# EAGLE library part JEELABS_MCP3424 (library PaxInstrument-T400)
18-Bit, 4-Channel Sampling ANALOG-TO-DIGITAL CONVERTER with I2C? Interface Source: www.ti.com .. ADS7828.pdf
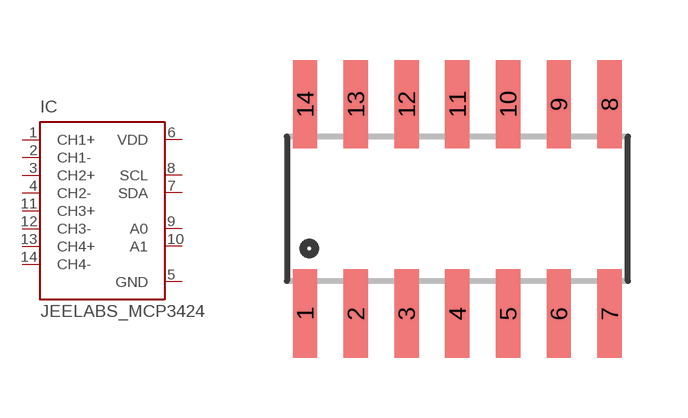
[diagram p0: symbol with the pads of JEELABS_SO14; footprint JEELABS_SO14]

Designator prefix IC

## JEELABS_MCP3424  [JEELABS_SO14]
1  CH1+  in
2  CH1-  in
3  CH2+  in
4  CH2-  in
5  GND  pwr
6  VDD  pwr
7  SDA
8  SCL  in
9  A0  in
10  A1  in
11  CH3+  in
12  CH3-  in
13  CH4+  in
14  CH4-  in

## Footprint JEELABS_SO14 (pad centres in mm)
smd 0.61 x 2.21: 1 -3.81,-2.616; 2 -2.54,-2.616; 3 -1.27,-2.616; 4 0,-2.616; 5 1.27,-2.616; 6 2.54,-2.616; 7 3.81,-2.616; 8 3.81,2.616; 9 2.54,2.616; 10 1.27,2.616; 11 0,2.616; 12 -1.27,2.616; 13 -2.54,2.616; 14 -3.81,2.616